# EAGLE library part PIC18F2*31 (library joakim)
Flash Microcontroller with nanoWatt Technology High-Performance PWM and A/D, 28-Pin Source: http://ww1.microchip.com/downloads/en/DeviceDoc/39616C.pdf
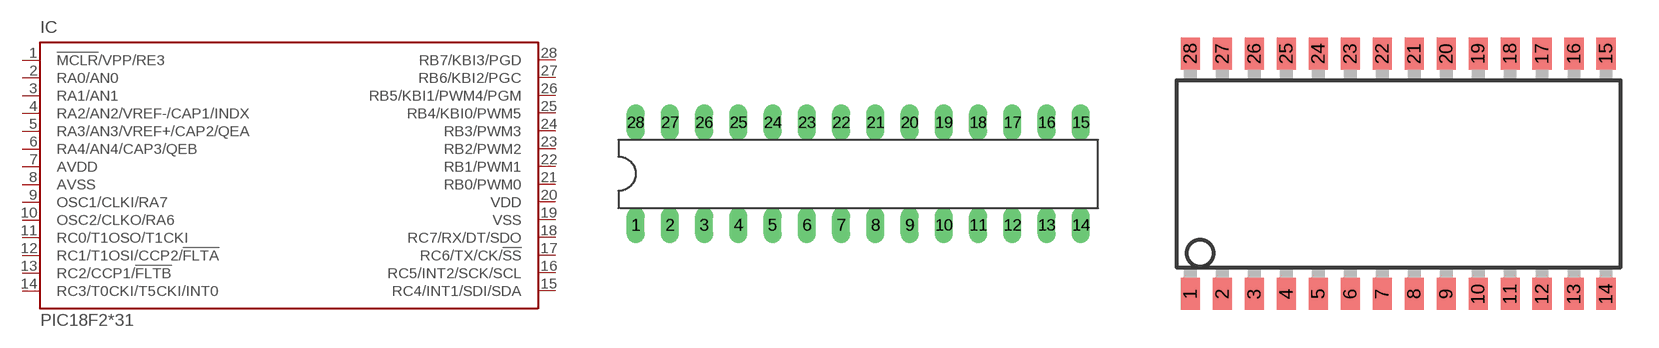
[diagram p0: symbol with the pads of DIL28-3J; footprints DIL28-3J, SO28WJ]

Designator prefix IC

## PIC18F2331DIP, PIC18F2431DIP  [DIL28-3J]
1  !MCLR!/VPP/RE3  in
2  RA0/AN0
3  RA1/AN1
4  RA2/AN2/VREF-/CAP1/INDX
5  RA3/AN3/VREF+/CAP2/QEA
6  RA4/AN4/CAP3/QEB
7  AVDD  in
8  AVSS  in
9  OSC1/CLKI/RA7
10  OSC2/CLKO/RA6
11  RC0/T1OSO/T1CKI
12  RC1/T1OSI/CCP2/!FLTA
13  RC2/CCP1/!FLTB
14  RC3/T0CKI/T5CKI/INT0
15  RC4/INT1/SDI/SDA
16  RC5/INT2/SCK/SCL
17  RC6/TX/CK/!SS
18  RC7/RX/DT/SDO
19  VSS  pwr
20  VDD  pwr
21  RB0/PWM0
22  RB1/PWM1
23  RB2/PWM2
24  RB3/PWM3
25  RB4/KBI0/PWM5
26  RB5/KBI1/PWM4/PGM
27  RB6/KBI2/PGC
28  RB7/KBI3/PGD

## PIC18F2331W, PIC18F2431W  [SO28WJ]
Pads as for DIL28-3J

## Footprint DIL28-3J (pad centres in mm)
Dual In Line package type P
drill 0.813 long: 1 -16.51,-3.81; 2 -13.97,-3.81; 3 -11.43,-3.81; 4 -8.89,-3.81; 5 -6.35,-3.81; 6 -3.81,-3.81; 7 -1.27,-3.81; 8 1.27,-3.81; 9 3.81,-3.81; 10 6.35,-3.81; 11 8.89,-3.81; 12 11.43,-3.81; 13 13.97,-3.81; 14 16.51,-3.81; 15 16.51,3.81; 16 13.97,3.81; 17 11.43,3.81; 18 8.89,3.81; 19 6.35,3.81; 20 3.81,3.81; 21 1.27,3.81; 22 -1.27,3.81; 23 -3.81,3.81; 24 -6.35,3.81; 25 -8.89,3.81; 26 -11.43,3.81; 27 -13.97,3.81; 28 -16.51,3.81

## Footprint SO28WJ (pad centres in mm)
28-Lead Plastic Small Outline (SO) Wide, 300 mil Body (SOIC) Source: http://ww1.microchip.com/downloads/en/devicedoc/39632c.pdf
smd 0.762 x 1.27: 1 -7.62,-4.78; 2 -6.35,-4.78; 3 -5.08,-4.78; 4 -3.81,-4.78; 5 -2.54,-4.78; 6 -1.27,-4.78; 7 0,-4.78; 8 1.27,-4.78; 9 2.54,-4.78; 10 3.81,-4.78; 11 5.08,-4.78; 12 6.35,-4.78; 13 7.62,-4.78; 14 8.89,-4.78; 15 8.89,4.78; 16 7.62,4.78; 17 6.35,4.78; 18 5.08,4.78; 19 3.81,4.78; 20 2.54,4.78; 21 1.27,4.78; 22 0,4.78; 23 -1.27,4.78; 24 -2.54,4.78; 25 -3.81,4.78; 26 -5.08,4.78; 27 -6.35,4.78; 28 -7.62,4.78